# EAGLE library part PTH08T (library ic)
PTH08Txxx: DC/DC converter (Texas Instruments) 4.5-14V in, 0.69-5.5V out Remote sense, efficiency 96%, synchronisable
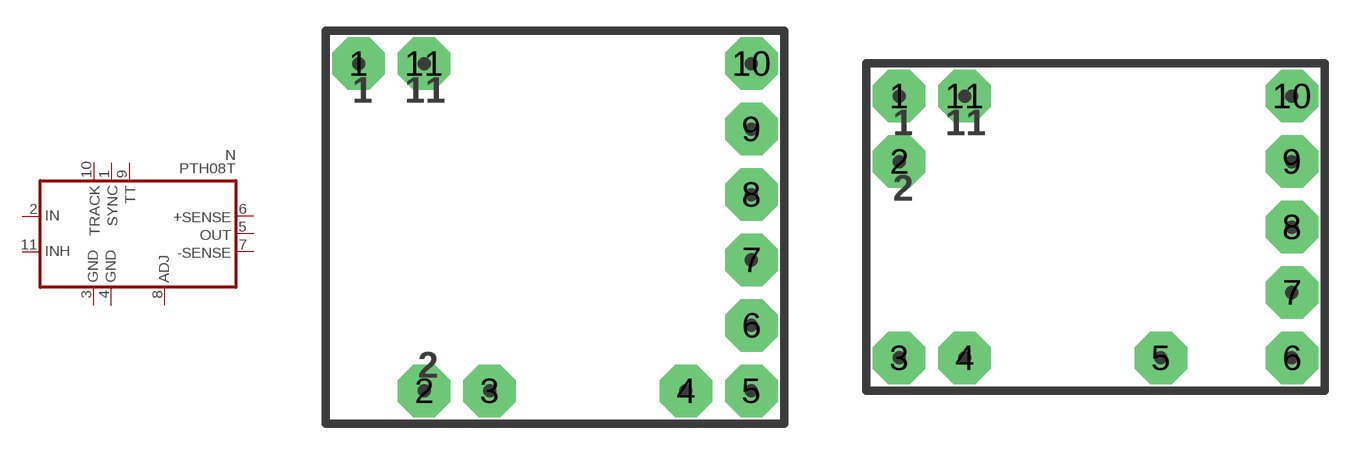
[diagram p120: symbol with the pads of PTH08T220; footprints PTH08T220, PTH08T240]

Designator prefix N

## PTH08T220  [PTH08T220]
1  SYNC  in
2  IN  in
3  GND
4  GND
5  OUT  out
6  +SENSE  in
7  -SENSE  in
8  ADJ
9  TT  in
10  TRACK  in
11  INH  in

## PTH08T240  [PTH08T240]
Pads as for PTH08T220

## Footprint PTH08T220 (pad centres in mm)
PTH08T220: DC/DC converter 16A (Texas Instruments)
drill 1.194 pad 2.54 octagon: 1 -8.89,7.62; 2 -5.715,-8.255; 3 -2.54,-8.255; 4 6.985,-8.255; 5 10.16,-8.255; 6 10.16,-5.08; 7 10.16,-1.905; 8 10.16,1.27; 9 10.16,4.445; 10 10.16,7.62; 11 -5.715,7.62

## Footprint PTH08T240 (pad centres in mm)
PTH08T240: DC/DC converter 10A (Texas Instruments)
drill 1.194 pad 2.54 octagon: 1 -8.89,6.35; 2 -8.89,3.175; 3 -8.89,-6.35; 4 -5.715,-6.35; 5 3.81,-6.35; 6 10.16,-6.35; 7 10.16,-3.175; 8 10.16,0; 9 10.16,3.175; 10 10.16,6.35; 11 -5.715,6.35